# Altium schematic symbol library PowerSupply.SchLib: 3 symbols
Pins are listed as number, name and electrical type; pins without a type are passive.

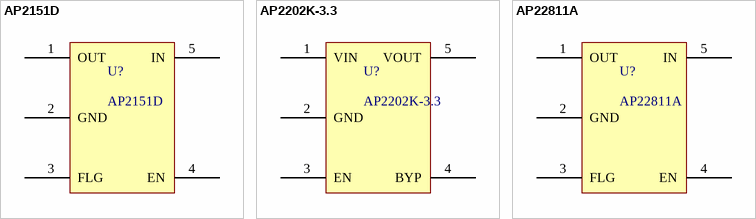
[diagram p0: symbols AP2151D to AP22811A]

## AP2151D
designator U?
USB Power Switch/Driver 500mA SOT-25; Supplier 1: Digi-Key; Supplier 2: Mouser; Supplier Part Number 1: AP2151DWG-7DICT-ND; Supplier Part Number 2: 621-AP2151DWG-7
footprint AP22811 - SOT95P285X140-5M (SOT23, 5-Leads, Body 3.00x2.85mm, Pitch 0.95mm, IPC Low Density)
pins: 1 OUT, 2 GND, 3 FLG, 4 EN, 5 IN

## AP2202K-3.3
designator U?
3.3V 150mA LDO regulator; Supplier 1: Mouser; Supplier Part Number 1: 621-AP2202K-3.3TRG1; Supplier 2: Digi-Key; Supplier Part Number 2: AP2202K-3.3TRG1DICT-ND; Supplier 3: Arrow; Supplier Part Number 3: PWagzdsTFFHKE_U17B45SP-NtndBrheJIaI5hB7gHD0ZVywxIBNyoAQstvnyfZZ0
footprint AP2202 - SOT95P270X145-5N (SOT23, 5-Leads, Body 2.92x2.70mm, Pitch 0.95mm, IPC Medium Density)
pins: 1 VIN, 2 GND, 3 EN, 4 BYP, 5 VOUT

## AP22811A
designator U?
USB Power Switch/Driver 2A SOT-25; Supplier 1: Digi-Key; Supplier 2: Mouser; Supplier Part Number 1: AP22811AW5-7DICT-ND; Supplier Part Number 2: 621-AP22811AW5-7
footprint AP22811 - SOT95P285X140-5M (SOT23, 5-Leads, Body 3.00x2.85mm, Pitch 0.95mm, IPC Low Density)
pins: 1 OUT, 2 GND, 3 FLG, 4 EN, 5 IN